# Altium integrated library Integrated_Library.IntLib: 16 symbols
Pins are listed as number, name and electrical type; pins without a type are passive.

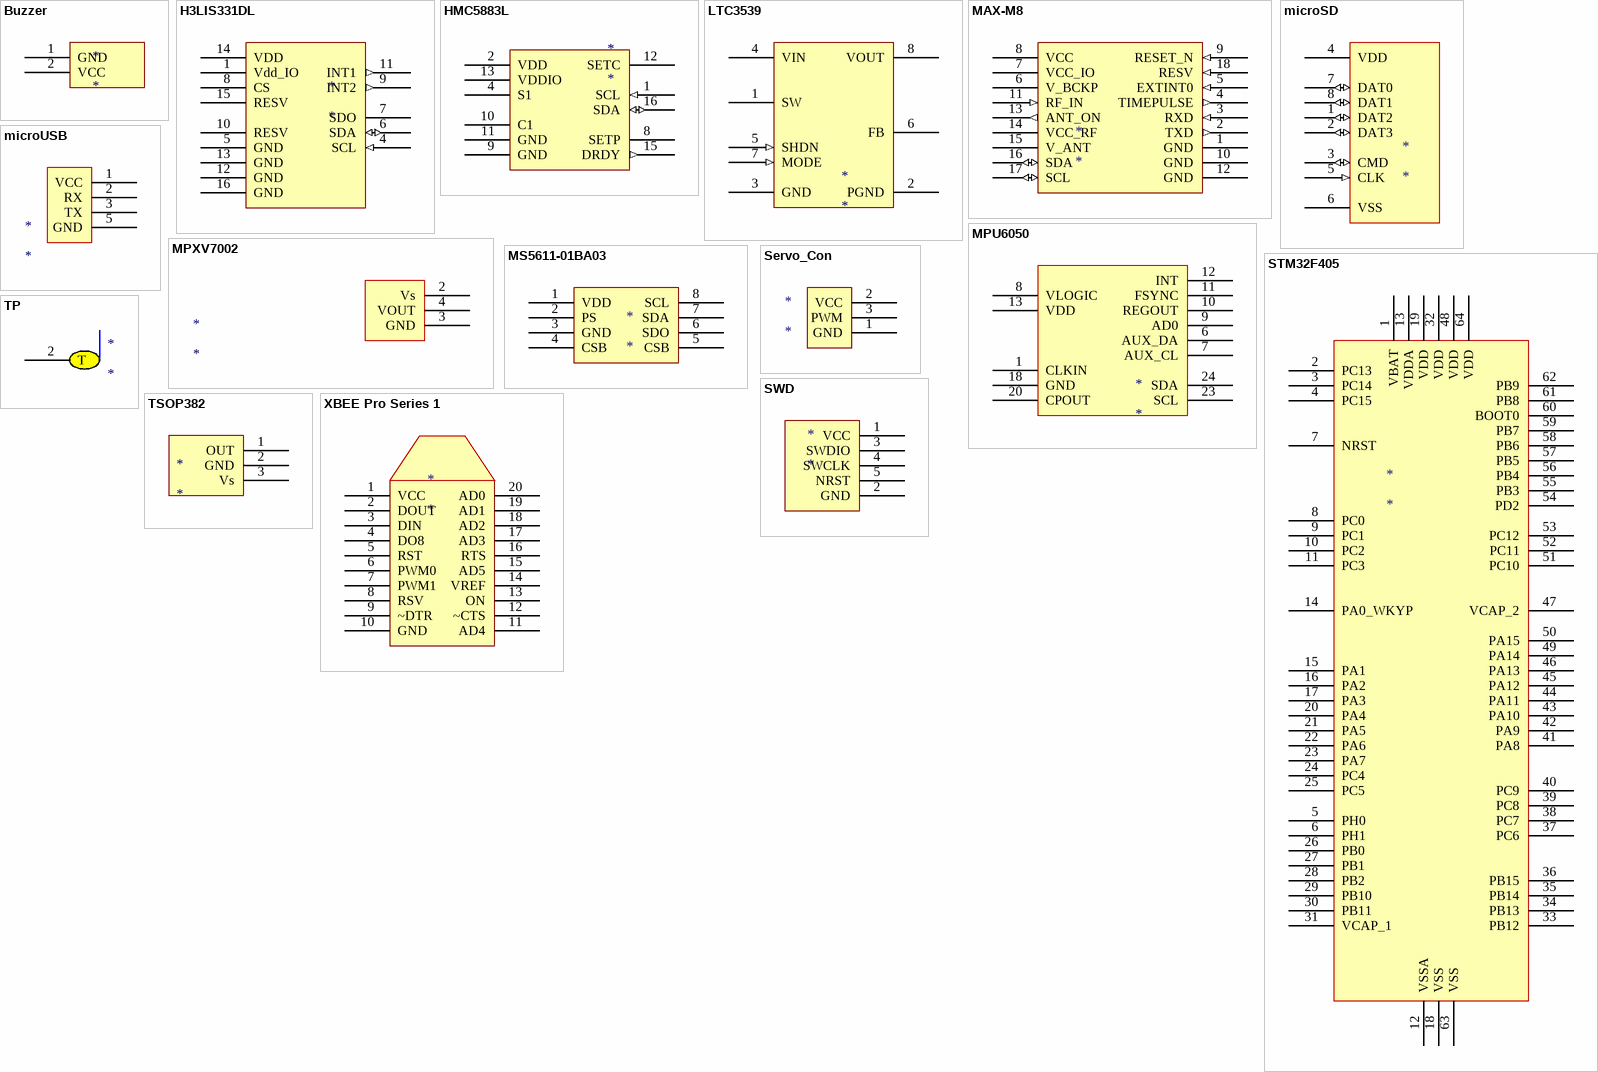
[diagram p0: symbols Buzzer to XBEE Pro Series 1]

## Buzzer
designator *
pins: 1 GND (power), 2 VCC (power)

## H3LIS331DL
designator *
pins: 1 Vdd_IO (power), 2 N/C hidden, 3 N/C hidden, 4 SCL (in), 5 GND (power), 6 SDA (io), 7 SDO, 8 CS, 9 INT2 (out), 10 RESV, 11 INT1 (out), 12 GND (power), 13 GND (power), 14 VDD (power), 15 RESV, 16 GND (power)

## HMC5883L
designator *
pins: 1 SCL (in), 2 VDD (power), 3 N/C hidden, 4 S1, 5 N/C hidden, 6 N/C hidden, 7 N/C hidden, 8 SETP, 9 GND (power), 10 C1, 11 GND (power), 12 SETC, 13 VDDIO (power), 14 N/C hidden, 15 DRDY (out), 16 SDA (io)

## LTC3539
designator *
pins: 1 SW, 2 PGND (power), 3 GND (power), 4 VIN (power), 5 SHDN (in), 6 FB, 7 MODE (in), 8 VOUT (power)

## MAX-M8
designator *
pins: 1 GND (power), 2 TXD (out), 3 RXD (in), 4 TIMEPULSE (out), 5 EXTINT0 (in), 6 V_BCKP (power), 7 VCC_IO (power), 8 VCC (power), 9 RESET_N (in), 10 GND (power), 11 RF_IN (in), 12 GND (power), 13 ANT_ON (out), 14 VCC_RF (power), 15 V_ANT (power), 16 SDA (io), 17 SCL (io), 18 RESV (in)

## microSD
designator *
pins: 1 DAT2 (io), 2 DAT3 (io), 3 CMD (io), 4 VDD, 5 CLK (in), 6 VSS (power), 7 DAT0 (io), 8 DAT1 (io)

## microUSB
designator *
pins: 1 VCC (power), 2 RX, 3 TX, 4 N/C hidden, 5 GND (power)

## MPU6050
designator *
pins: 1 CLKIN, 2 N/C hidden, 3 N/C hidden, 4 N/C hidden, 5 N/C hidden, 6 AUX_DA, 7 AUX_CL, 8 VLOGIC, 9 AD0, 10 REGOUT, 11 FSYNC, 12 INT, 13 VDD, 14 N/C hidden, 15 N/C hidden, 16 N/C hidden, 17 N/C hidden, 18 GND, 19 RESV hidden, 20 CPOUT, 21 RESV hidden, 22 RESV hidden, 23 SCL, 24 SDA

## MPXV7002
designator *
pins: 1 N/C hidden, 2 Vs (power), 3 GND (power), 4 VOUT, 5 N/C hidden, 6 N/C hidden, 7 N/C hidden, 8 N/C hidden

## MS5611-01BA03
designator *
pins: 1 VDD, 2 PS, 3 GND, 4 CSB, 5 CSB, 6 SDO, 7 SDA, 8 SCL

## Servo_Con
designator *
pins: 1 GND, 2 VCC, 3 PWM

## STM32F405
designator *
pins: 1 VBAT, 2 PC13, 3 PC14, 4 PC15, 5 PH0, 6 PH1, 7 NRST, 8 PC0, 9 PC1, 10 PC2, 11 PC3, 12 VSSA, 13 VDDA, 14 PA0_WKYP, 15 PA1, 16 PA2, 17 PA3, 18 VSS, 19 VDD, 20 PA4, 21 PA5, 22 PA6, 23 PA7, 24 PC4, 25 PC5, 26 PB0, 27 PB1, 28 PB2, 29 PB10, 30 PB11, 31 VCAP_1, 32 VDD, 33 PB12, 34 PB13, 35 PB14, 36 PB15, 37 PC6, 38 PC7, 39 PC8, 40 PC9, 41 PA8, 42 PA9, 43 PA10, 44 PA11, 45 PA12, 46 PA13, 47 VCAP_2, 48 VDD, 49 PA14, 50 PA15, 51 PC10, 52 PC11, 53 PC12, 54 PD2, 55 PB3, 56 PB4, 57 PB5, 58 PB6, 59 PB7, 60 BOOT0, 61 PB8, 62 PB9, 63 VSS, 64 VDD

## SWD
designator *
pins: 1 VCC, 2 GND, 3 SWDIO, 4 SWCLK, 5 NRST

## TP
designator *
pins: 2 T

## TSOP382
designator *
pins: 1 OUT, 2 GND, 3 Vs

## XBEE Pro Series 1
designator *
pins: 1 VCC, 2 DOUT, 3 DIN, 4 DO8, 5 RST, 6 PWM0, 7 PWM1, 8 RSV, 9 ~DTR, 10 GND, 11 AD4, 12 ~CTS, 13 ON, 14 VREF, 15 AD5, 16 RTS, 17 AD3, 18 AD2, 19 AD1, 20 AD0